# EAGLE library part LT1013 (library ds_ic_opa)
Dual Precision Op Amp
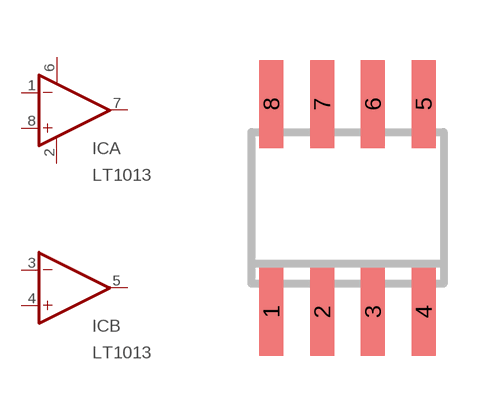
[diagram p13: symbol with the pads of SO8; footprint SO8]

Designator prefix IC; gates A=LT1013 B=OPA

## LT1013  [SO8]
1  A:+INA  in
2  A:V-  pwr
3  B:-IN  in
4  B:+IN  in
5  B:OUT  out
6  A:V+  pwr
7  A:OUTA  out
8  A:-INA  in

## Footprint SO8 (pad centres in mm)
SMALL OUTLINE INTEGRATED CIRCUIT
smd 0.6 x 2.2: 1 -1.905,-2.6; 2 -0.635,-2.6; 3 0.635,-2.6; 4 1.905,-2.6; 5 1.905,2.6; 6 0.635,2.6; 7 -0.635,2.6; 8 -1.905,2.6